# Altium schematic symbol library TNY279P.SchLib: 1 symbol
Pins are listed as number, name and electrical type; pins without a type are passive.

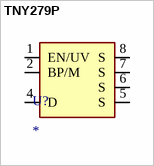
[diagram p0: symbol TNY279P]

## TNY279P
designator U?
PDF: *; ID: *; PRICE: *; BUY_LINK: *
footprint DIP-8
pins: 1 EN/UV, 2 BP/M, 4 D, 5 S, 6 S, 7 S, 8 S